# EAGLE library part DS2484 (library Custom)
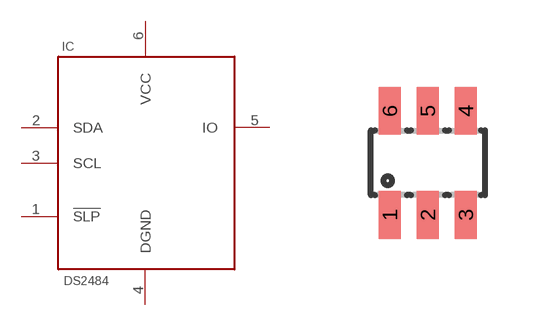
[diagram p3: symbol with the pads of SOT23-6L; footprint SOT23-6L]

Designator prefix IC

## DS2484  [SOT23-6L]
1  !SLP
2  SDA  out
3  SCL  in
4  DGND  pwr
5  IO  in
6  VCC  pwr

## Footprint SOT23-6L (pad centres in mm)
Small Outline Transistor
smd 0.55 x 1.2: 1 -0.95,-1.3; 2 0,-1.3; 3 0.95,-1.3; 4 0.95,1.3; 5 0,1.3; 6 -0.95,1.3